# Altium schematic symbol library IMB03CGR.SchLib: 2 symbols
Pins are listed as number, name and electrical type; pins without a type are passive.

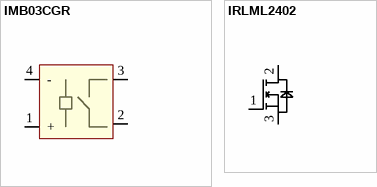
[diagram p0: symbols IMB03CGR to IRLML2402]

## IMB03CGR
designator DA?
Relay
footprint IMB03CGR (Relay)
pins: 1 +, 2, 3, 4 -

## IRLML2402
designator VT?
Voltage Source; Note: PCB Footprint - Not required; Published: 8-Jun-2000; LatestRevisionDate: 17-Jul-2002; LatestRevisionNote: Re-released for DXP Platform.; PackageReference: Not Applicable; Publisher: Altium Limited
footprint IRLML2402 (Transistor)
pins: 1 G, 2 S, 3 D